# EAGLE library part IMC7 (library con-phoenix-381)
Invertierter Mini-Combicon 3.81mm horizontal 7-polig IMC 1,5/7-G-3,81 (ohne Gegenstecker)
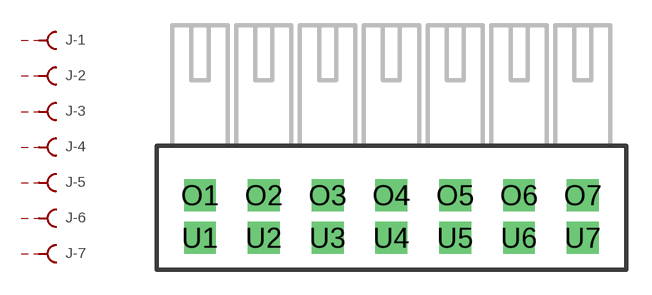
[diagram p23: symbol with the pads of IMC7; footprint IMC7]

Designator prefix J; gates -4=MCBU -3=MCBU -2=MCBU -1=MCBU -5=MCBU -6=MCBU -7=MCBU

## IMC7  [IMC7]
O1  -1:S  pas
O2  -2:S  pas
O3  -3:S  pas
O4  -4:S  pas
O5  -5:S  pas
O6  -6:S  pas
O7  -7:S  pas
U1  -1:SK  pas
U2  -2:SK  pas
U3  -3:SK  pas
U4  -4:SK  pas
U5  -5:SK  pas
U6  -6:SK  pas
U7  -7:SK  pas

## Footprint IMC7 (pad centres in mm)
Mini-Combicon 3.81mm horizontal 7-polig invertiert IMC 1,5/7-G-3,81 Artikel-Nr. 1862629
drill 1.27 square: O1 -11.43,1.27; O2 -7.62,1.27; O3 -3.81,1.27; O4 0,1.27; O5 3.81,1.27; O6 7.62,1.27; O7 11.43,1.27; U1 -11.43,-1.27; U2 -7.62,-1.27; U3 -3.81,-1.27; U4 0,-1.27; U5 3.81,-1.27; U6 7.62,-1.27; U7 11.43,-1.27